# EAGLE library part M41T11M6E (library ST Microelectronics)
Serial real-time clock with 56 bytes of NVRAM
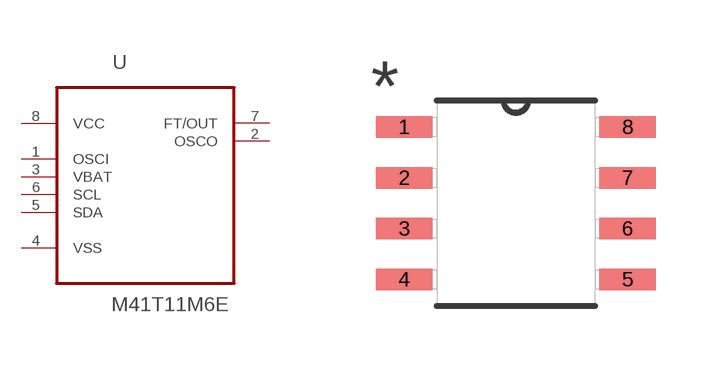
[diagram p183: symbol with the pads of SOIC127P600X175-8N; footprint SOIC127P600X175-8N]

Designator prefix U

## M41T11M6E (MPN: M41T11M6E; OC_FARNELL: 9882642; OC_NEWARK: 89K1444; PACKAGE: SOIC-8; SUPPLIER: STMICROELECTRONICS)  [SOIC127P600X175-8N]
1  OSCI  in
2  OSCO  out
3  VBAT  in
4  VSS  pas
5  SDA
6  SCL  in
7  FT/OUT  out
8  VCC  pwr

## Footprint SOIC127P600X175-8N (pad centres in mm)
smd 1.422 x 0.533: 1 -2.794,1.905; 2 -2.794,0.635; 3 -2.794,-0.635; 4 -2.794,-1.905; 5 2.794,-1.905; 6 2.794,-0.635; 7 2.794,0.635; 8 2.794,1.905